# Altium integrated library S4B-PH-SM4-TB.IntLib: 1 symbol
Pins are listed as number, name and electrical type; pins without a type are passive.

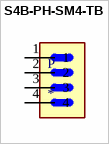
[diagram p0: symbol S4B-PH-SM4-TB]

## S4B-PH-SM4-TB
designator P
Connector Header Surface Mount, Right Angle 4 position 0.079 _2.00mm_; MF: JST Sales; MP: S4B-PH-SM4-TB; Package: None; Value: *; Availability: Unavailable; SnapEDA_Link: https://www.snapeda.com/parts/S4B-PH-SM4-TB/JST%20Sales%20America%20Inc./view-part/473686/?ref=snap; Price: None
footprint JST_S4B-PH-SM4-TB
pins: 1, 2, 3, 4